# Altium schematic symbol library Schlib1.SchLib: 3 symbols
Pins are listed as number, name and electrical type; pins without a type are passive.

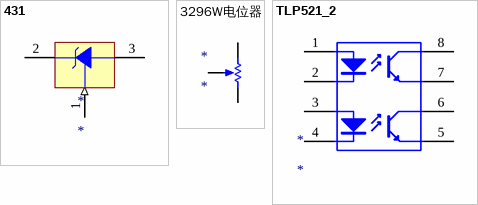
[diagram p0: symbols 431 to TLP521_2]

## 431
designator *
pins: 1 REF (in), 2 K, 3 A

## 3296W电位器
designator *
pins: 1 TOP, 2 BOT, W TAP

## TLP521_2
designator *
pins: 1 A, 2 K, 3 A, 4 K, 5 E, 6 C, 7 E, 8 C